# Altium schematic symbol library Barrel-Jack.SchLib: 1 symbol
Pins are listed as number, name and electrical type; pins without a type are passive.

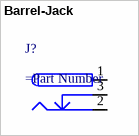
[diagram p0: symbol Barrel-Jack]

## Barrel-Jack
designator J?
pins: 1 erer, 2, 3